# EAGLE library part USB (library hacesoft)
USB Connectors
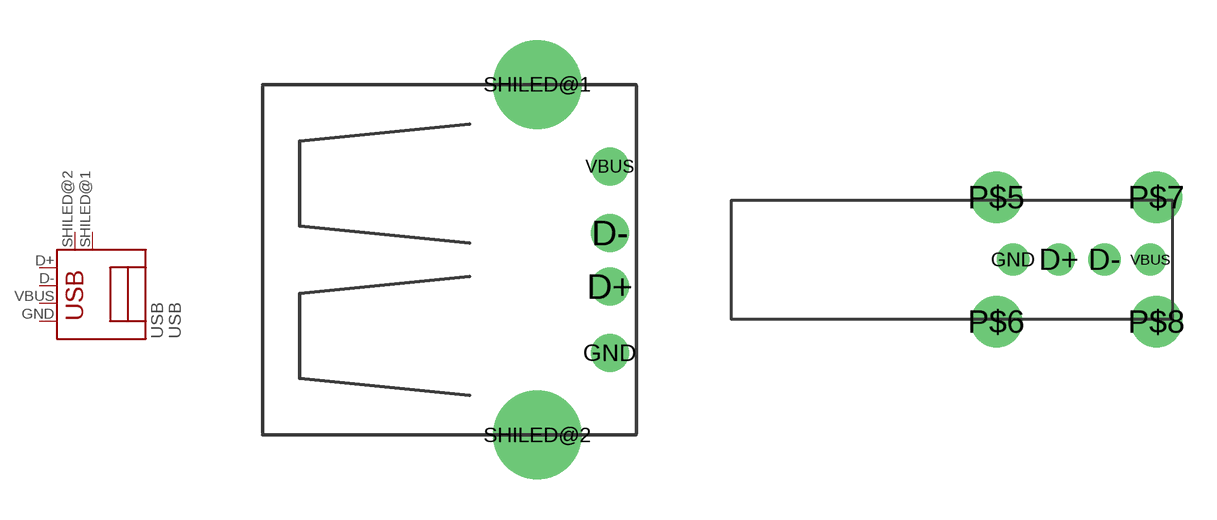
[diagram p2: symbol with the pads of USB-A-H; footprints USB-A-H, USB-A-HU]

Designator prefix USB

## USB1  [USB-A-H]
D+  D+
D-  D-
GND  GND
SHILED@1  SHILED
SHILED@2  SHILED
VBUS  VBUS

## USB2  [USB-A-HU]
D+  D+
D-  D-
GND  GND
P$5  SHILED
P$6  SHILED
VBUS  VBUS

## USB3  [USB-A-S]
Pads as for USB-A-HU

## USB4  [USB-B-H]
D+  D+
D-  D-
GND  GND
P$1  SHILED
P$2  SHILED
VBUS  VBUS

## USB5  [USB-B-SMT]
5  SHILED
6  SHILED
D+  D+
D-  D-
GND  GND
VUSB  VBUS

## USB6  [USB-MB-H]
D+  D+
D-  D-
GND  GND
P$6  SHILED
P$7  SHILED
VBUS  VBUS

## USB7  [USB-MB-S]
Pads as for USB-B-H

## Footprint USB-A-H (pad centres in mm)
USB Series A Hole Mounted
drill 0.914: D+ 2.718,-1.003; D- 2.718,1.003; GND 2.718,-3.493; VBUS 2.718,3.493
drill 2.311: SHILED@1 0,6.566; SHILED@2 0,-6.566

## Footprint USB-A-HU (pad centres in mm)
USB Series A Hole Mounted Up-Right
drill 0.9: D+ 2.73,0; D- 4.73,0; GND 0.73,0; VBUS 6.73,0
drill 1.5: P$5 0,2.72; P$6 0,-2.72; P$7 7,2.72; P$8 7,-2.72

## Footprint USB-A-S (pad centres in mm)
USB Series A Surface Mounted
smd 3 x 0.9: D+ 3.45,-1; D- 3.45,1; GND 3.45,-3; VBUS 3.45,3
drill 2.311: P$5 0,-6.566; P$6 0,6.566

## Footprint USB-B-H (pad centres in mm)
USB Series B Hole Mounted
drill 0.914: D+ 0,1.25; D- 1.981,1.25; GND 0,-1.25; VBUS 1.981,-1.25
drill 2.286: P$1 -2.718,-6.02; P$2 -2.718,6.02

## Footprint USB-B-SMT (pad centres in mm)
USB Series B Surface Mounted
smd 6.04 x 3.4: 5 0.58,6.8; 6 0.58,-6.8
smd 3 x 0.7: D+ 7,1.875; D- 7,0.625; GND 7,-0.625; VUSB 7,-1.875
hole 1.4 at 0,2.25
hole 1.4 at 0,-2.25

## Footprint USB-MB-H (pad centres in mm)
USB Series Mini-B Hole Mounted
drill 0.8: D+ 5.1,0; D- 3.9,0.8; GND 5.1,-1.6; ID 3.9,-0.8; VBUS 5.1,1.6
drill 1.9: P$6 0,-3.65; P$7 0,3.65

## Footprint USB-MB-S (pad centres in mm)
USB Series Mini-B Surface Mounted
smd 2.5 x 0.5: D+ 2.5,0; D- 2.5,0.8; GND 2.5,-1.6; ID 2.5,-0.8; VBUS 2.5,1.6
smd 2.5 x 2: P$1 -3,-4.5; P$2 -3,4.5; P$3 2.5,-4.4; P$4 2.5,4.5
drill 0.9: P$5 0,2.2; P$6 0,-2.2